# Altium footprint library 杂项库.PcbLib: 585 footprints (part 17 of 37)
Each footprint in its own frame and in the unit in brackets; x right, y up, seen from the top. Pads: shape width x height; smd on the part's side, far side on the other; paste and mask are expansions set on the pad; w line width, h text height; cw(c..) or ccw(c..) is an arc to the next point about the centre after c.
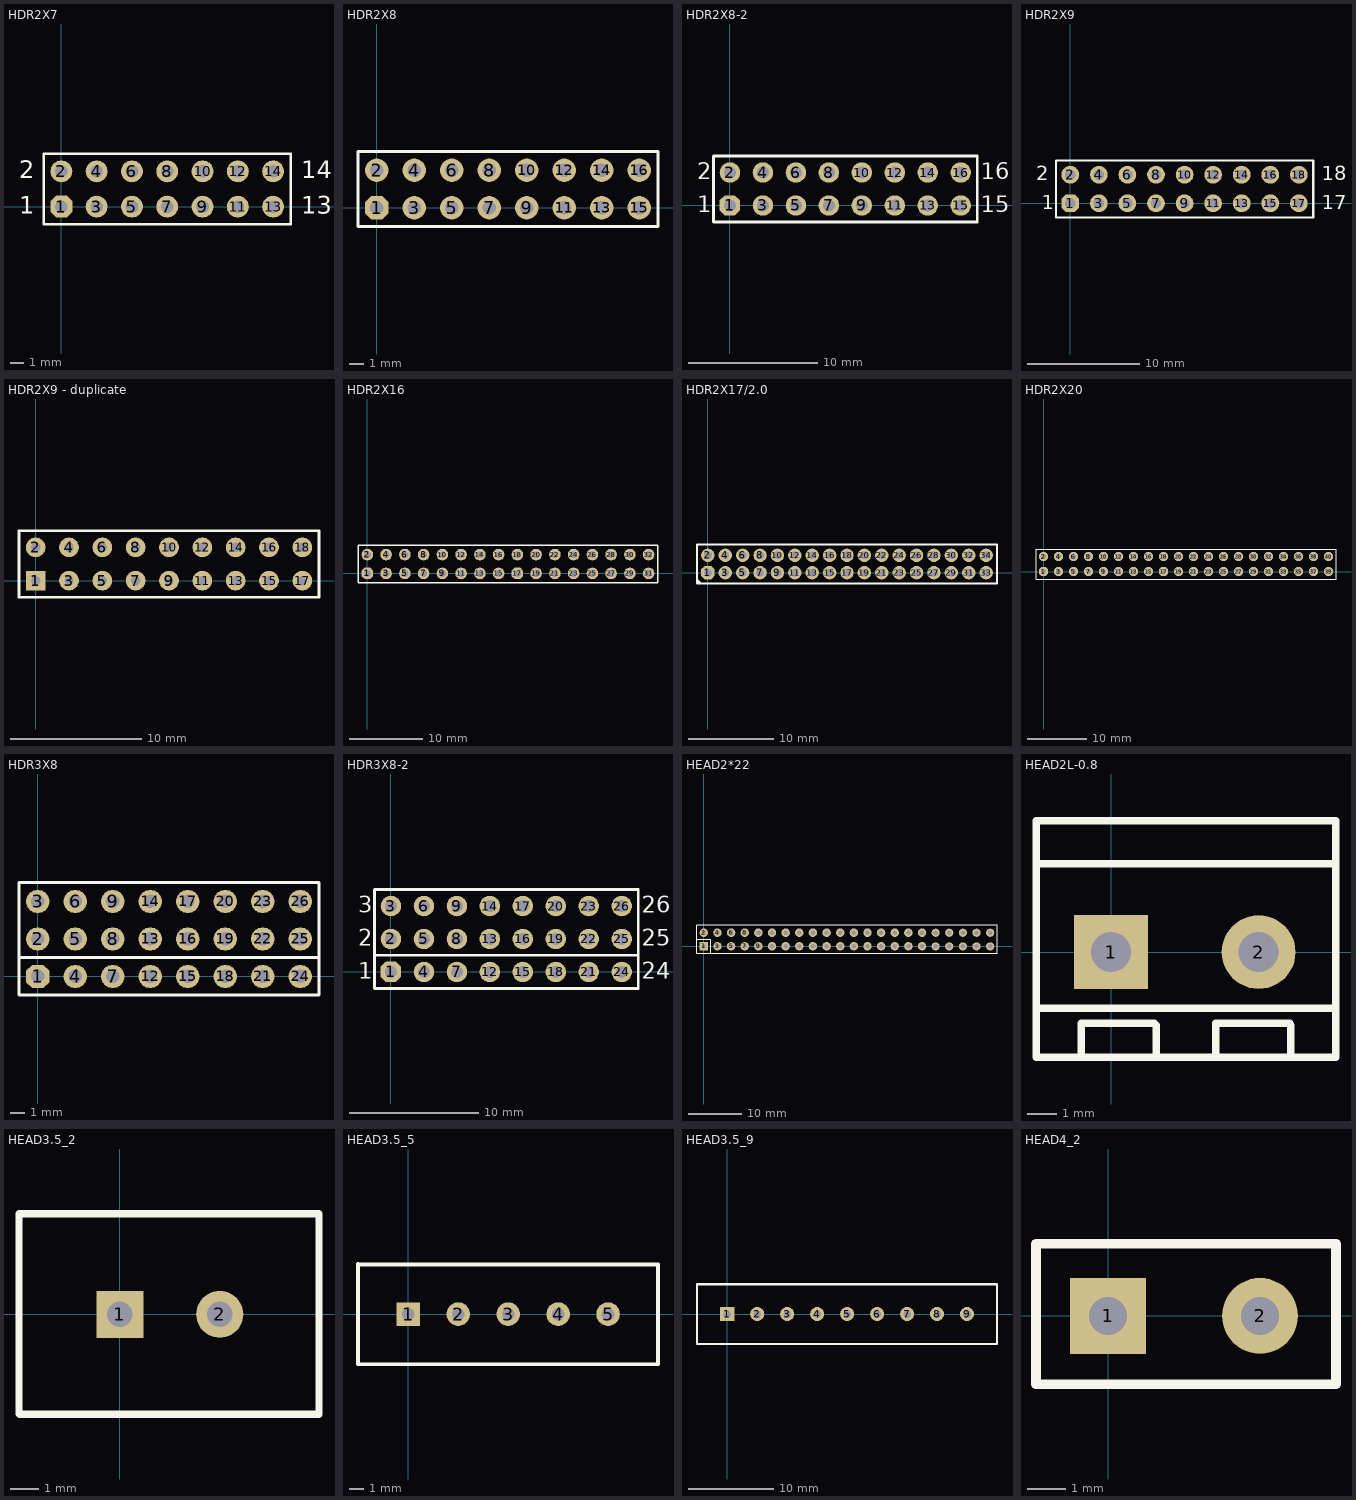
[diagram p16: the footprints below, top view; thin cyan lines are the x and y axes]

## HDR2X7 [mil]
pads (14):
  oct 62x62 hole 36: 1(0,0)
  round 62 hole 36: 2(0,100) 3(100,0) 4(100,100) 5(200,0) 6(200,100) 7(300,0) 8(300,100) 9(400,0) 10(400,100) 11(500,0) 12(500,100) 13(600,0) 14(600,100)
Top Overlay:
  lines w8: -50,-50 -50,150 650,150 650,-50 -50,-50
  text "2" at -120,80 h50
  text "1" at -120,-20 h50
  text "14" at 680,80 h50
  text "13" at 680,-20 h50

## HDR2X8 [mil]
pads (16):
  oct 62x62 hole 36: 1(0,0)
  round 62 hole 36: 2(0,100) 3(100,0) 4(100,100) 5(200,0) 6(200,100) 7(300,0) 8(300,100) 9(400,0) 10(400,100) 11(500,0) 12(500,100) 13(600,0) 14(600,100) 15(700,0) 16(700,100)
Top Overlay:
  lines w8: -50,-50 750,-50 750,150 -50,150 -50,-50

## HDR2X8-2 [mil]
pads (16):
  oct 62x62 hole 36: 1(0,0)
  round 62 hole 36: 2(0,100) 3(100,0) 4(100,100) 5(200,0) 6(200,100) 7(300,0) 8(300,100) 9(400,0) 10(400,100) 11(500,0) 12(500,100) 13(600,0) 14(600,100) 15(700,0) 16(700,100)
Top Overlay:
  lines w8: -50,-50 -50,150 750,150 750,-50 -50,-50
  text "2" at -100,80 h50
  text "15" at 760,-20 h50
  text "16" at 760,80 h50
  text "1" at -100,-20 h50

## HDR2X9 [mil]
pads (18):
  oct 62x62 hole 36: 1(0,0)
  round 62 hole 36: 2(0,100) 3(100,0) 4(100,100) 5(200,0) 6(200,100) 7(300,0) 8(300,100) 9(400,0) 10(400,100) 11(500,0) 12(500,100) 13(600,0) 14(600,100) 15(700,0) 16(700,100) 17(800,0) 18(800,100)
Top Overlay:
  lines w8: -50,-50 -50,150 850,150 850,-50 -50,-50
  text "2" at -120,80 h50
  text "1" at -100,-20 h50
  text "17" at 880,-20 h50
  text "18" at 880,80 h50

## HDR2X9 - duplicate [mm]
pads (18):
  rect 1.5x1.5 hole 0.7: 1(0,0)
  round 1.5 hole 0.7: 2(0,2.54) 3(2.54,0) 4(2.54,2.54) 5(5.08,0) 6(5.08,2.54) 7(7.62,0) 8(7.62,2.54) 9(10.16,0) 10(10.16,2.54) 11(12.7,0) 12(12.7,2.54) 13(15.24,0) 14(15.24,2.54) 15(17.78,0) 16(17.78,2.54) 17(20.32,0) 18(20.32,2.54)
Top Overlay:
  lines w0.2: -1.27,-1.27 21.59,-1.27 21.59,3.81 -1.27,3.81 -1.27,-1.27

## HDR2X16 [mil]
pads (32):
  oct 62x62 hole 36: 1(0,0) 17(800,0)
  round 62 hole 36: 2(0,100) 3(100,0) 4(100,100) 5(200,0) 6(200,100) 7(300,0) 8(300,100) 9(400,0) 10(400,100) 11(500,0) 12(500,100) 13(600,0) 14(600,100) 15(700,0) 16(700,100) 18(800,100) 19(900,0) 20(900,100) 21(1000,0) 22(1000,100) 23(1100,0) 24(1100,100) 25(1200,0) 26(1200,100) 27(1300,0) 28(1300,100) 29(1400,0) 30(1400,100) 31(1500,0) 32(1500,100)
Top Overlay:
  lines w8: -50,-50 750,-50 1550,-50 1550,150 750,150 -50,150 -50,-50

## HDR2X17/2.0 [mil]
pads (34):
  oct 62x62 hole 36: 1(0,0)
  round 62 hole 36: 2(0,80) 3(80,0) 4(80,80) 5(160,0) 6(160,80) 7(240,0) 8(240,80) 9(320,0) 10(320,80) 11(400,0) 12(400,80) 13(480,0) 14(480,80) 15(560,0) 16(560,80) 17(640,0) 18(640,80) 19(720,0) 20(720,80) 21(800,0) 22(800,80) 23(880,0) 24(880,80) 25(960,0) 26(960,80) 27(1040,0) 28(1040,80) 29(1120,0) 30(1120,80) 31(1200,0) 32(1200,80) 33(1280,0) 34(1280,80)
Top Overlay:
  lines w8: -40,-40 -50,-50 ; -35,-50 -50,-35 -50,-30 -30,-50 ; -50,-50 750,-50 1330,-50 1330,130 750,130 -50,130 -50,-50

## HDR2X20 [mil]
pads (40):
  oct 62x62 hole 36: 1(0,0) 17(800,0)
  round 62 hole 36: 2(0,100) 3(100,0) 4(100,100) 5(200,0) 6(200,100) 7(300,0) 8(300,100) 9(400,0) 10(400,100) 11(500,0) 12(500,100) 13(600,0) 14(600,100) 15(700,0) 16(700,100) 18(800,100) 19(900,0) 20(900,100) 21(1000,0) 22(1000,100) 23(1100,0) 24(1100,100) 25(1200,0) 26(1200,100) 27(1300,0) 28(1300,100) 29(1400,0) 30(1400,100) 31(1500,0) 32(1500,100) 33(1600,0) 34(1600,100) 35(1700,0) 36(1700,100) 37(1800,0) 38(1800,100) 39(1900,0) 40(1900,100)
Top Overlay:
  lines w8: -50,-50 -50,150 750,150 1950,150 1950,-50 750,-50 -50,-50

## HDR3X8 [mil]
pads (24):
  oct 62x62 hole 36: 1(0,0)
  round 62 hole 36: 2(0,100) 3(0,200) 4(100,0) 5(100,100) 6(100,200) 7(200,0) 8(200,100) 9(200,200) 12(300,0) 13(300,100) 14(300,200) 15(400,0) 16(400,100) 17(400,200) 18(500,0) 19(500,100) 20(500,200) 21(600,0) 22(600,100) 23(600,200) 24(700,0) 25(700,100) 26(700,200)
Top Overlay:
  lines w8: -50,51.18 750,51.18 ; -50,-50 750,-50 750,150 750,250 -50,250 -50,150 -50,-50

## HDR3X8-2 [mil]
pads (24):
  oct 62x62 hole 36: 1(0,0)
  round 62 hole 36: 2(0,100) 3(0,200) 4(100,0) 5(100,100) 6(100,200) 7(200,0) 8(200,100) 9(200,200) 12(300,0) 13(300,100) 14(300,200) 15(400,0) 16(400,100) 17(400,200) 18(500,0) 19(500,100) 20(500,200) 21(600,0) 22(600,100) 23(600,200) 24(700,0) 25(700,100) 26(700,200)
Top Overlay:
  lines w8: -50,51.18 750,51.18 ; -50,-50 750,-50 750,150 750,250 -50,250 -50,150 -50,-50
  text "26" at 760,180 h50
  text "3" at -100,180 h50
  text "25" at 760,80 h50
  text "24" at 760,-20 h50
  text "1" at -100,-20 h50
  text "2" at -100,80 h50

## HEAD2*22 [mil]
pads (44):
  rect 62x62 hole 35: 1(0.42,0.42)
  round 62 hole 35: 2(0.42,100.42) 3(100.42,0.42) 4(100.42,100.42) 5(200.43,0.42) 6(200.43,100.42) 7(300.43,0.42) 8(300.43,100.42) 9(400.43,0.42) 10(400.43,100.42) 11(500.43,0.42) 12(500.43,100.42) 13(600.42,0.42) 14(600.42,100.42) 15(700.42,0.42) 16(700.42,100.42) 17(800.42,0.42) 18(800.42,100.42) 19(900.42,0.42) 20(900.42,100.42) 21(1000.42,0.42) 22(1000.42,100.42) 23(1100.42,0.42) 24(1100.42,100.42) 25(1200.42,0.42) 26(1200.42,100.42) 27(1300.42,0.42) 28(1300.42,100.42) 29(1400.42,0.42) 30(1400.42,100.42) 31(1500.42,0.42) 32(1500.42,100.42) 33(1600.42,0.42) 34(1600.42,100.42)
  round 60 hole 35: 35(1700,0) 36(1700,100) 37(1800,0) 38(1800,100) 39(1900,0) 40(1900,100) 41(2000,0) 42(2000,100) 43(2100,0) 44(2100,100)
Top Overlay:
  lines w7: -49.58,51.18 51.18,51.18 51.18,-49.58 ; -49.58,-49.58 1650.42,-49.58 2150,-49.58 2150,157.48 -47.97,157.48 -49.58,155.87 -49.58,150.43 -49.58,-49.58

## HEAD2L-0.8 [mm]
pads (2):
  rect 2.5x2.5 hole 1.35: 1(0,0)
  round 2.5 hole 1.35: 2(5,0)
Top Overlay:
  lines w0.254: -2.54,-1.905 7.62,-1.905 ; -2.54,3 7.62,3 ; -1.016,-3.556 -1.016,-2.476 ; -1.016,-2.413 1.461,-2.413 1.524,-2.476 1.524,-3.556 ; 3.556,-3.493 3.556,-2.413 6.056,-2.413 ; 6.096,-3.556 6.096,-2.476 ; -2.54,-3.556 7.62,-3.556 7.62,4.445 -2.54,4.445 -2.54,-3.556

## HEAD3.5_2 [mil]
pads (2):
  rect 65x65 hole 35: 1(0,0)
  round 65 hole 35: 2(137.79,0)
Top Overlay:
  lines w10: -139,-137 -139,138.59 274.59,138.59 274.59,-137.59 -138.41,-137.59 -139,-137

## HEAD3.5_5 [mil]
pads (5):
  rect 65x65 hole 35: 1(0,0)
  round 65 hole 35: 2(137.79,0) 3(275.59,0) 4(413.39,0) 5(551.18,0)
Top Overlay:
  lines w10: -139,-138 412.18,-138 689,-138 689,137 403,137 ; -139,-137 -139,138.59 ; -139,137 412.18,137

## HEAD3.5_9 [mil]
pads (9):
  rect 65x65 hole 35: 1(0,0)
  round 65 hole 35: 2(137.79,0) 3(275.59,0) 4(413.39,0) 5(551.18,0) 6(688.98,0) 7(826.77,0) 8(964.57,0) 9(1102.36,0)
Top Overlay:
  lines w10: -139,-137 -139,138.59 ; -139,137 412.18,137 1239,137 1240,136 1240,-138 -139,-138 412.18,-138

## HEAD4_2 [mm]
pads (2):
  rect 2x2 hole 1: 1(0,0)
  round 2 hole 1: 2(4,0)
Top Overlay:
  lines w0.254: -1.9,-1.8 6,-1.8 6,1.9 -1.9,1.9 -1.9,-1.8